# Altium footprint library Pcblib_20110825.Pcblib: 408 footprints (part 16 of 26)
Each footprint in its own frame and in the unit in brackets; x right, y up, seen from the top. Pads: shape width x height; smd on the part's side, far side on the other; paste and mask are expansions set on the pad; w line width, h text height; cw(c..) or ccw(c..) is an arc to the next point about the centre after c.
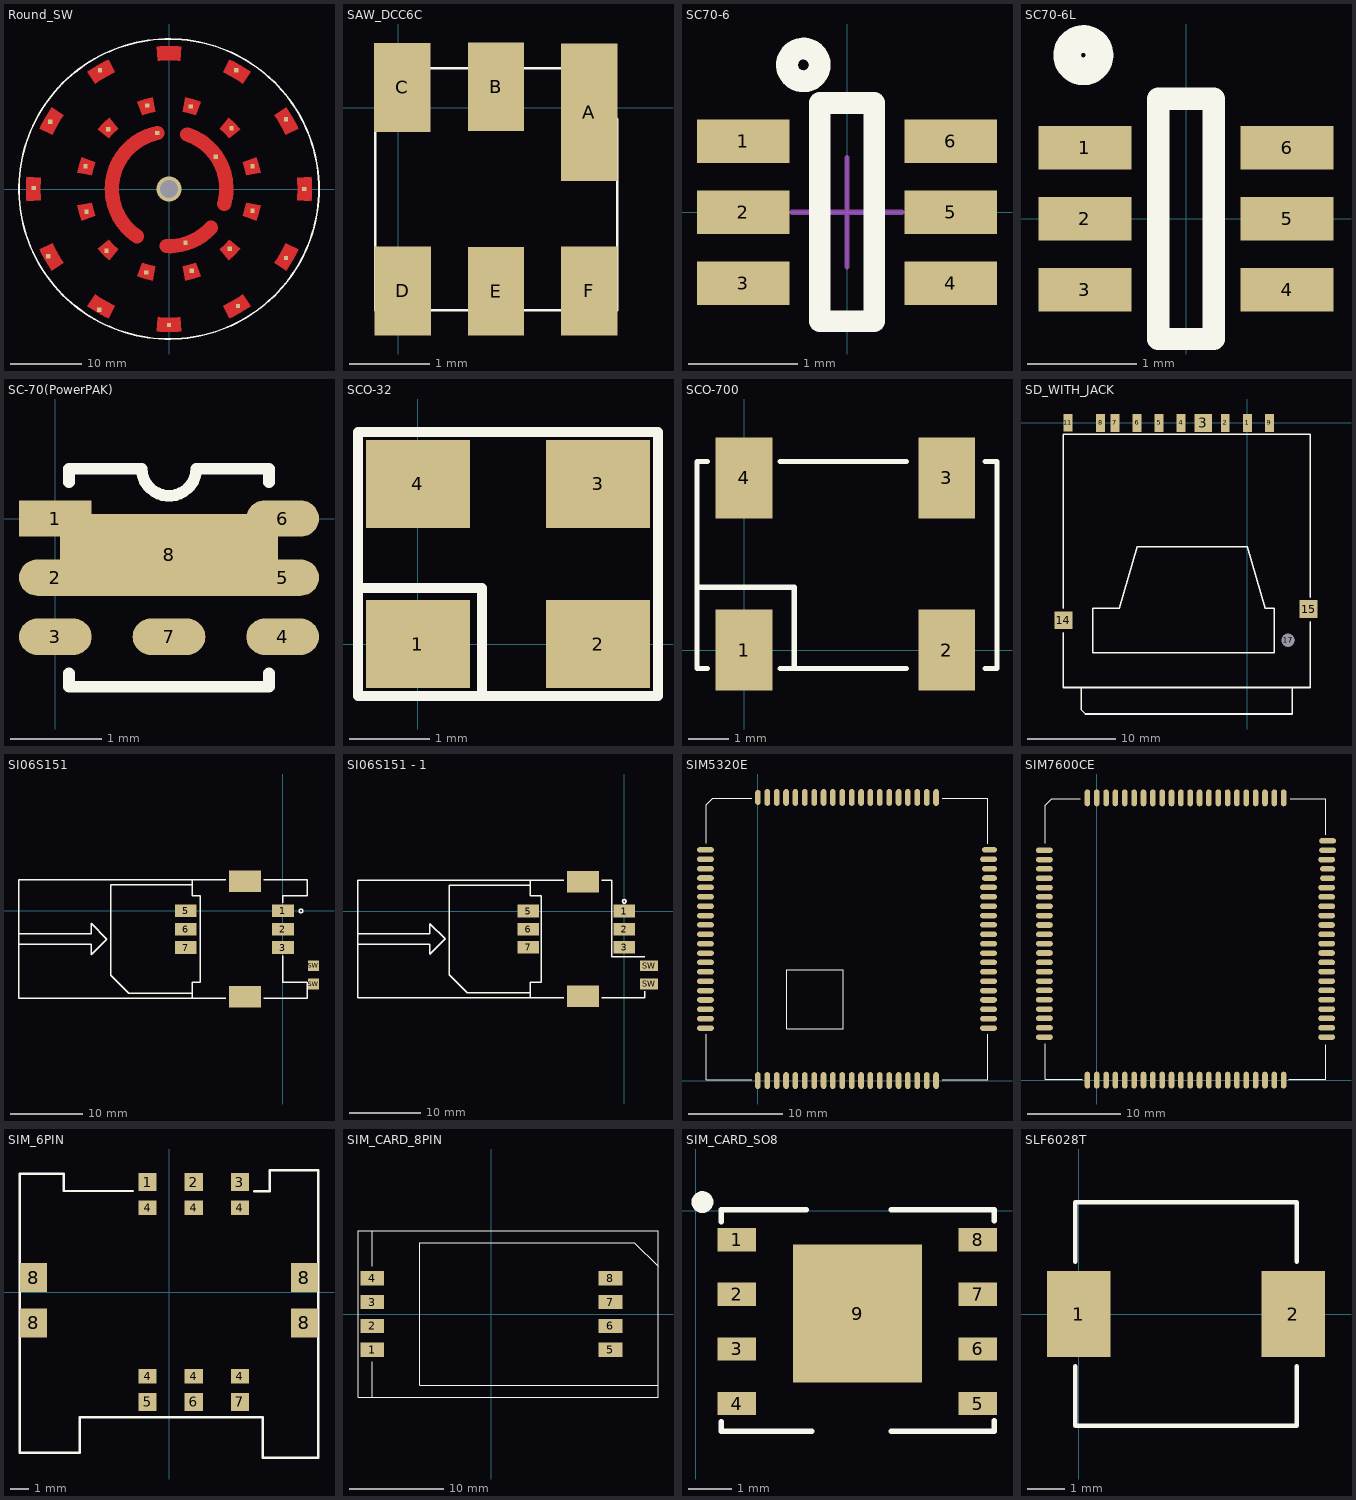
[diagram p15: the footprints below, top view; thin cyan lines are the x and y axes]

## Round_SW [mm]
pads (26):
  rect 0.6x0.6 smd: 1(-1.656,7.827) 2(-3.048,11.684) 3(-9.652,16.637) 4(-8.509,8.382) 5(-16.637,9.398) 6(-11.684,3.175) 7(-18.923,0.127) 8(-11.557,-3.175) 9(-16.891,-9.398) 10(-8.763,-8.636) 11(-9.779,-16.891) 12(-3.175,-11.684) 13(0,-19.05) 14(3.175,-11.43) 15(9.652,-16.383) 16(8.509,-8.382) 17(16.383,-9.652) 18(11.684,-3.048) 19(18.923,0) 20(11.684,3.175) 21(16.383,9.779) 22(8.763,8.509) 23(9.398,16.637) 24(3.048,11.557) 25(2.311,-7.518) 26(6.553,4.496)
via 0,0 diameter 3.5 hole 2.5
TopLayer:
  region: 10.843,1.912 10.635,2.85 10.346,3.766 10.337,3.762 12.228,4.45 12.569,3.368 12.815,2.26 12.802,2.257
  region: 7.094,8.419 7.786,7.786 8.435,7.077 8.426,7.071 9.959,8.356 9.953,8.381 9.201,9.201 8.364,9.968 8.356,9.959
  region: 1.912,10.843 2.85,10.635 3.766,10.346 3.762,10.337 4.45,12.228 3.368,12.569 2.26,12.815 2.257,12.802
  region: -3.762,10.337 -4.446,12.216 -4.45,12.228 -3.368,12.569 -2.26,12.815 -2.257,12.802 -1.912,10.843 -2.85,10.635 -3.766,10.346
  region: -9.959,8.356 -8.435,7.077 -7.786,7.786 -7.077,8.435 -7.071,8.426 -8.356,9.959 -8.364,9.968 -9.201,9.201 -9.968,8.364
  region: -12.802,2.257 -10.843,1.912 -10.635,2.85 -10.346,3.766 -10.337,3.762 -12.228,4.45 -12.569,3.368 -12.815,2.26
  region: -12.228,-4.45 -12.569,-3.368 -12.815,-2.26 -12.802,-2.257 -10.843,-1.912 -10.635,-2.85 -10.346,-3.766 -10.337,-3.762
  region: -9.968,-8.364 -9.201,-9.201 -8.364,-9.968 -8.356,-9.959 -7.077,-8.435 -7.786,-7.786 -8.435,-7.077 -8.426,-7.071
  region: -4.45,-12.228 -3.368,-12.569 -2.26,-12.815 -2.257,-12.802 -1.912,-10.843 -2.85,-10.635 -3.766,-10.346 -3.762,-10.337
  region: 2.257,-12.802 1.912,-10.843 2.85,-10.635 3.766,-10.346 3.762,-10.337 4.45,-12.228 3.368,-12.569 2.26,-12.815
  region: 7.071,-8.426 8.364,-9.968 9.201,-9.201 9.968,-8.364 9.959,-8.356 8.435,-7.077 7.786,-7.786 7.077,-8.435
  region: 10.337,-3.762 12.228,-4.45 12.569,-3.368 12.815,-2.26 12.802,-2.257 10.843,-1.912 10.635,-2.85 10.346,-3.766
  region: 14.745,-10.324 16.384,-11.472 16.638,-11.117 17.33,-10.005 17.947,-8.851 18.127,-8.453 18.126,-8.452 16.314,-7.607 16.32,-7.61 15.808,-8.632 15.152,-9.738
  region: 8.452,-18.126 7.607,-16.314 7.61,-16.32 8.632,-15.808 9.738,-15.152 10.324,-14.745 11.472,-16.384 11.117,-16.638 10.005,-17.33 8.851,-17.947 8.453,-18.127
  region: -1.743,-19.925 -1.309,-19.968 0,-20.011 1.309,-19.968 1.743,-19.925 1.743,-19.924 1.569,-17.932 1.569,-17.935 1.285,-17.966 0,-18.011 -1.285,-17.966 -1.569,-17.935 -1.569,-17.932
  region: -11.472,-16.384 -11.117,-16.638 -10.005,-17.33 -8.851,-17.947 -8.453,-18.127 -8.452,-18.126 -7.607,-16.314 -7.61,-16.32 -8.632,-15.808 -9.738,-15.152 -10.324,-14.745
  region: -16.384,-11.472 -16.638,-11.117 -17.33,-10.005 -17.947,-8.851 -18.127,-8.453 -18.126,-8.452 -16.314,-7.607 -16.32,-7.61 -15.808,-8.632 -15.152,-9.738 -14.745,-10.324
  region: -19.924,-1.743 -17.932,-1.569 -17.936,-1.562 -17.966,-1.285 -18.011,0 -17.966,1.285 -17.935,1.569 -17.932,1.569 -19.925,1.743 -19.968,1.309 -20.011,0 -19.968,-1.309 -19.925,-1.743
  region: -18.126,8.452 -16.314,7.607 -16.32,7.61 -15.808,8.632 -15.152,9.738 -14.75,10.317 -14.745,10.324 -16.384,11.472 -16.638,11.117 -17.33,10.005 -17.947,8.851 -18.127,8.453
  region: -10.324,14.745 -11.472,16.384 -11.117,16.638 -10.005,17.33 -8.851,17.947 -8.453,18.127 -8.452,18.126 -7.607,16.314 -7.61,16.32 -8.632,15.808 -9.738,15.152
  region: -1.569,17.932 -1.743,19.925 -1.309,19.968 0,20.011 1.309,19.968 1.743,19.925 1.743,19.924 1.592,17.93 1.592,17.933 1.285,17.966 0,18.011 -1.285,17.966 -1.569,17.935
  region: 7.61,16.32 8.632,15.808 9.738,15.152 10.324,14.745 11.472,16.384 11.117,16.638 10.005,17.33 8.851,17.947 8.453,18.127 8.452,18.126
  region: 16.32,7.61 15.808,8.632 15.152,9.738 14.745,10.324 16.384,11.472 16.638,11.117 17.33,10.005 17.947,8.851 18.127,8.453 18.126,8.452
  region: 17.935,-1.569 17.966,-1.285 18.011,0 17.966,1.285 17.935,1.569 17.932,1.569 19.925,1.743 19.968,1.309 20.011,0 19.968,-1.309 19.925,-1.743 19.924,-1.743
  lines w2: -4.472,-6.633 cw(c0,0) -1.656,7.827 ; -0.306,-7.994 ccw(c0,0) 5.868,-5.438 ; 2.563,7.638 cw(c0.025,0.051) 7.74,-2.069
TopOverlay:
  circle w0.254: c0,0 r21
TopSolder:
  drawing of 26 lines, arcs and shapes, not listed

## SAW_DCC6C [mm]
pads (6):
  rect 0.7x1.7 smd: A(2.368,-0.057)
  rect 0.7x1.1 smd: B(1.209,0.258) C(0.049,0.25) D(0.051,-2.272) E(1.209,-2.275) F(2.368,-2.272)
TopOverlay:
  lines w0.03: -0.289,-2.511 2.711,-2.511 ; -0.29,-2.511 -0.29,0.489 2.08,0.489 2.71,-0.141 2.71,-2.511

## SC70-6 [mm] "SC70 6-Leads, Body 2.0x1.25mm, Pitch 0.65mm"
height 1.45
pads (6):
  rect 0.85x0.4 smd mask+0.05: 1(-0.95,0.65) 2(-0.95,0) 3(-0.95,-0.65) 4(0.95,-0.65) 5(0.95,0) 6(0.95,0.65)
TopOverlay:
  circle w0.2: c-0.4,1.35 r0.15
  lines w0.2: -0.25,-1 0.25,-1 0.25,1 -0.25,1 -0.25,-1
Mechanical15:
  lines w0.05: -0.5,0 0.5,0 ; 0,-0.5 0,0.5
3D body: height 1.45, standoff 0, extent -0.625,-1 0.625,1

## SC70-6L [mm]
height 1.1
pads (6):
  rect 0.85x0.4 smd: 1(-0.925,0.65) 2(-0.925,0) 3(-0.925,-0.65) 4(0.925,-0.65) 5(0.925,0) 6(0.925,0.65)
TopOverlay:
  circle w0.254: c-0.94,1.499 r0.148
  lines w0.203: -0.254,-1.1 -0.254,1.1 0.254,1.1 0.254,-1.1 -0.254,-1.1

## SC-70(PowerPAK) [mm]
pads (8):
  rect 0.8x0.4 smd: 1(0,0)
  oval 0.8x0.4 smd: 2(0,-0.65) 3(0,-1.3) 4(2.5,-1.3) 5(2.5,-0.65) 6(2.5,0) 7(1.25,-1.3)
  rect 2.4x0.9 smd: 8(1.25,-0.4)
TopOverlay:
  lines w0.127: 0.15,-1.7 0.15,-1.85 2.35,-1.85 2.35,-1.7 ; 0.15,0.4 0.15,0.55 0.95,0.55 ccw(c1.25,0.55) 1.55,0.55 2.35,0.55 2.35,0.4

## SCO-32 [mm]
pads (4):
  rect 1.3x1.1 smd: 1(0,0) 2(2.25,0) 3(2.25,2) 4(0,2)
TopOverlay:
  lines w0.127: -0.75,0.7 0.8,0.7 0.8,-0.65 ; -0.75,-0.65 3,-0.65 3,2.65 -0.75,2.65 -0.75,-0.65

## SCO-700 [mm]
pads (4):
  rect 1.4x2 smd: 1(0,0) 2(5,0) 3(5,4.25) 4(0,4.25)
TopOverlay:
  lines w0.127: -1.16,1.55 1.24,1.55 1.24,-0.45 ; -0.9,-0.45 -1.16,-0.45 -1.16,4.65 -0.9,4.65 ; 0.89,-0.45 4,-0.45 ; 0.89,4.65 4,4.65 ; 5.94,-0.45 6.24,-0.45 6.24,4.65 5.94,4.65

## SD_WITH_JACK [mm]
pads (13):
  rect 1x2 smd: 1(0,0) 2(-2.5,0) 4(-7.5,0) 5(-10,0) 6(-12.5,0) 7(-15,0) 8(-16.625,0) 9(2.5,0) 11(-20.32,0.016)
  rect 2x2 smd: 3(-5,0) 14(-20.828,-22.336) 15(6.924,-21.066)
  round 1.4 hole 1.5 unplated: 17(4.612,-24.604)
TopOverlay:
  lines w0.178: -20.828,-23.75 -20.828,-29.956 -19.388,-29.956 7.112,-29.956 7.112,-22.5 ; -20.828,-21 -20.828,-1.3 7.112,-1.3 7.112,-19.75 ; -18.796,-29.956 -18.796,-32.496 -18.336,-32.956 -16.208,-32.956 5.08,-32.956 5.08,-29.956 ; -17.492,-26 3.048,-26 3.048,-21 2.008,-21 0.008,-14 -12.492,-14 -14.492,-21 -17.492,-21 -17.492,-26

## SI06S151 [mm]
pads (10):
  rect 3x1.75 smd: 1(0,0) 2(0,-2.54) 3(0,-5.08) 5(-13.5,0) 6(-13.5,-2.54) 7(-13.5,-5.08)
  rect 1.5x1.5 smd: SW(4.25,-10.16) SW(4.25,-7.62)
  rect 4.4x3 smd: ""(-5.25,-11.9) ""(-5.25,4.1)
TopOverlay:
  circle w0.203: c2.5,0 r0.254
  lines w0.178: -36.6,-4.65 -26.586,-4.65 -26.586,-6.059 -24.427,-3.9 -26.586,-1.741 -26.586,-3.15 -36.6,-3.15 ; -12.6,-11.4 -21.4,-11.4 -23.9,-8.9 -23.9,3.6 -12.6,3.6 ; -7.95,-12.1 -12.6,-12.1 ; -7.95,4.3 -12.6,4.3 ; -2.65,-12.1 3.35,-12.1 3.35,-9.9 0,-9.9 0,-6.2 ; -2.65,4.3 3.35,4.3 3.35,2.1 0,2.1 0,1.1 ; -12.6,-12.1 -12.6,-9.9 -11.5,-9.9 -11.5,2.1 -12.6,2.1 -12.6,4.3 ; -12.6,-12.1 -36.6,-12.1 -36.6,4.3 -12.6,4.3

## SI06S151 - 1 [mm]
pads (10):
  rect 3x1.75 smd: 1(0,0) 2(0,-2.54) 3(0,-5.08) 5(-13.4,0) 6(-13.4,-2.54) 7(-13.4,-5.08)
  rect 2.5x1.5 smd: SW(3.45,-10.16) SW(3.45,-7.62)
  rect 4.4x3 smd: ""(-5.75,-11.9) ""(-5.75,4.1)
TopOverlay:
  circle w0.203: c0,1.35 r0.254
  lines w0.178: -37.1,-4.65 -27.086,-4.65 -27.086,-6.059 -24.927,-3.9 -27.086,-1.741 -27.086,-3.15 -37.1,-3.15 ; -13.1,-11.4 -21.9,-11.4 -24.4,-8.9 -24.4,3.6 -13.1,3.6 ; -8.45,-12.1 -13.1,-12.1 ; -8.45,4.3 -13.1,4.3 ; -3.15,-12.1 2.85,-12.1 2.85,-11.15 ; -3.15,4.3 -1.75,4.3 -1.75,-6.4 2.85,-6.4 ; -13.1,-12.1 -13.1,-9.9 -11.55,-9.9 -11.55,2.1 -13.1,2.1 -13.1,4.3 ; -13.1,-12.1 -37.1,-12.1 -37.1,4.3 -13.1,4.3

## SIM5320E [mm]
pads (80):
  oval 1.8x0.6 smd: 1(-5.6,24.6) 2(-5.6,23.6) 3(-5.6,22.6) 4(-5.6,21.6) 5(-5.6,20.6) 6(-5.6,19.6) 7(-5.6,18.6) 8(-5.6,17.6) 9(-5.6,16.6) 10(-5.6,15.6) 11(-5.6,14.6) 12(-5.6,13.6) 13(-5.6,12.6) 14(-5.6,11.6) 15(-5.6,10.6) 16(-5.6,9.6) 17(-5.6,8.6) 18(-5.6,7.6) 19(-5.6,6.6) 20(-5.6,5.6) 41(24.6,5.6) 42(24.6,6.6) 43(24.6,7.6) 44(24.6,8.6) 45(24.6,9.6) 46(24.6,10.6) 47(24.6,11.6) 48(24.6,12.6) 49(24.6,13.6) 50(24.6,14.6) 51(24.6,15.6) 52(24.6,16.6) 53(24.6,17.6) 54(24.6,18.6) 55(24.6,19.6) 56(24.6,20.6) 59(24.6,23.6)
  oval 0.6x1.8 smd: 21(0,0) 22(1,0) 23(2,0) 24(3,0) 25(4,0) 26(5,0) 27(6,0) 28(7,0) 29(8,0) 30(9,0) 31(10,0) 32(11,0) 33(12,0) 34(13,0) 35(14,0) 36(15,0) 37(16,0) 38(17,0) 39(18,0) 40(19,0) 61(19,30.2) 62(18,30.2) 63(17,30.2) 64(16,30.2) 65(15,30.2) 66(14,30.2) 67(13,30.2) 68(12,30.2) 69(11,30.2) 70(10,30.2) 71(9,30.2) 72(8,30.2) 73(7,30.2) 74(6,30.2) 75(5,30.2) 76(4,30.2) 77(3,30.2) 78(2,30.2) 79(1,30.2)
  oval 1.6x0.6 smd: 57(24.7,21.6) 58(24.7,22.6) 60(24.7,24.6)
  oval 0.6x1.6 smd: 80(0,30.2)
TopOverlay:
  lines w0.127: -5.5,4.939 -5.5,0.1 -0.661,0.1 ; -5.5,25.324 -5.5,29.414 -4.814,30.1 -0.66,30.1 ; 19.661,0.1 24.5,0.1 24.5,4.939 ; 19.661,30.1 24.5,30.1 24.5,25.261 ; 3.023,11.836 3.099,11.836 3.099,5.537 9.093,5.537 9.093,11.836 3.023,11.836

## SIM7600CE [mm]
pads (87):
  oval 1.8x0.6 smd: 1(-5.6,24.6) 2(-5.6,23.6) 3(-5.6,22.6) 4(-5.6,21.6) 5(-5.6,20.6) 6(-5.6,19.6) 7(-5.6,18.6) 8(-5.6,17.6) 9(-5.6,16.6) 10(-5.6,15.6) 11(-5.6,14.6) 12(-5.6,13.6) 13(-5.6,12.6) 14(-5.6,11.6) 15(-5.6,10.6) 16(-5.6,9.6) 17(-5.6,8.6) 18(-5.6,7.6) 19(-5.6,6.6) 20(-5.6,5.6) 41(24.6,5.6) 42(24.6,6.6) 43(24.6,7.6) 44(24.6,8.6) 45(24.6,9.6) 46(24.6,10.6) 47(24.6,11.6) 48(24.6,12.6) 49(24.6,13.6) 50(24.6,14.6) 51(24.6,15.6) 52(24.6,16.6) 53(24.6,17.6) 54(24.6,18.6) 55(24.6,19.6) 56(24.6,20.6) 59(24.6,23.6) 60(24.7,24.6) 81(-5.6,4.6) 82(24.6,4.6) 85(24.7,25.6)
  oval 0.6x1.8 smd: 21(0,0) 22(1,0) 23(2,0) 24(3,0) 25(4,0) 26(5,0) 27(6,0) 28(7,0) 29(8,0) 30(9,0) 31(10,0) 32(11,0) 33(12,0) 34(13,0) 35(14,0) 36(15,0) 37(16,0) 38(17,0) 39(18,0) 40(19,0) 61(19,30.2) 62(18,30.2) 63(17,30.2) 64(16,30.2) 65(15,30.2) 66(14,30.2) 67(13,30.2) 68(12,30.2) 69(11,30.2) 70(10,30.2) 71(9,30.2) 72(8,30.2) 73(7,30.2) 74(6,30.2) 75(5,30.2) 76(4,30.2) 77(3,30.2) 78(2,30.2) 79(1,30.2) 80(0,30.2) 83(20,0) 84(-1,0) 86(-1,30.2) 87(20,30.2)
  oval 1.6x0.6 smd: 57(24.7,21.6) 58(24.7,22.6)
TopOverlay:
  lines w0.127: -5.5,3.912 -5.5,0.1 -1.575,0.1 ; -5.5,25.324 -5.5,29.414 -4.814,30.1 -1.778,30.1 ; 20.523,0.1 24.5,0.1 24.5,3.785 ; 20.701,30.1 24.5,30.1 24.5,26.238

## SIM_6PIN [mm]
pads (16):
  rect 1x1 smd: 1(-1.18,6.045) 2(1.36,6.05) 3(3.9,6.05) 5(-1.18,-6.045) 6(1.36,-6.045) 7(3.9,-6.045)
  rect 1x0.8 smd: 4(-1.18,-4.642) 4(-1.18,4.642) 4(1.36,-4.642) 4(1.36,4.642) 4(3.9,-4.642) 4(3.9,4.642)
  rect 1.5x1.6 smd: 8(-7.45,-1.7) 8(-7.45,0.8) 8(7.45,-1.7) 8(7.45,0.8)
TopOverlay:
  lines w0.127: -1.981,5.563 -5.791,5.563 -5.791,6.502 -8.204,6.502 -8.204,-8.839 -4.902,-8.839 -4.902,-6.883 5.156,-6.883 5.156,-9.119 8.204,-9.119 8.204,6.706 5.537,6.706 5.537,5.537 4.674,5.537

## SIM_CARD_8PIN [mil]
pads (8):
  rect 100x60 smd: 1(-500,-150) 2(-500,-50) 3(-500,50) 4(-500,150) 5(500,-150) 6(500,-50) 7(500,50) 8(500,150)
TopOverlay:
  lines w5: -500,-350 -500,-200 ; -500,200 -500,350 ; 700,-300 -300,-300 -300,300 600,300 700,200 ; -560,-350 700,-350 700,350 -560,350 -560,-350

## SIM_CARD_SO8 [mm]
pads (9):
  rect 0.9x0.54 smd: 1(0.95,-0.67) 2(0.95,-1.94) 3(0.95,-3.21) 4(0.95,-4.48) 5(6.548,-4.48) 6(6.548,-3.21) 7(6.548,-1.94) 8(6.548,-0.67)
  rect 3x3.2 smd: 9(3.759,-2.388)
TopOverlay:
  circle w0.254: c0.152,0.203 r0.127
  lines w0.127: 0.584,-4.902 0.584,-5.125 2.692,-5.125 ; 0.584,-0.254 0.584,0.025 2.565,0.025 ; 4.534,-5.125 6.934,-5.125 6.934,-4.877 ; 4.534,0.025 6.934,0.025 6.934,-0.229

## SLF6028T [mm]
pads (2):
  rect 1.7x2.3 smd: 1(0,0) 2(5.75,0)
TopOverlay:
  lines w0.127: -0.1,-1.4 -0.1,-3 5.85,-3 5.85,-1.4 ; -0.1,1.4 -0.1,3 5.85,3 5.85,1.4